# EAGLE library part PIN2X5-2.0 (library Connector)
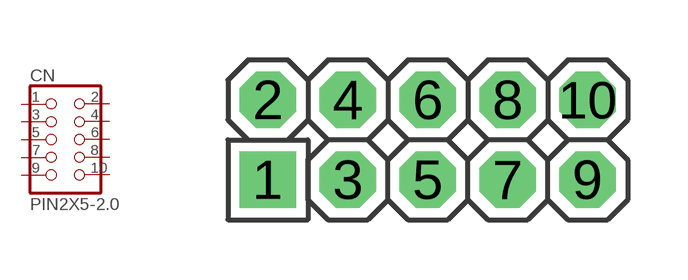
[diagram p25: symbol with the pads of PIN2X5-2.0; footprint PIN2X5-2.0]

Designator prefix CN

## PIN2X5-2.0  [PIN2X5-2.0]
1  1  pas
2  2  pas
3  3  pas
4  4  pas
5  5  pas
6  6  pas
7  7  pas
8  8  pas
9  9  pas
10  10  pas

## Footprint PIN2X5-2.0 (pad centres in mm)
drill 0.9 pad 1.3 square: 1 -4,-1
drill 0.9 pad 1.3 octagon: 2 -4,1; 3 -2,-1; 4 -2,1; 5 0,-1; 6 0,1; 7 2,-1; 8 2,1; 9 4,-1; 10 4,1